# Altium footprint library PCB.PcbLib: 1 footprints
Each footprint in its own frame and in the unit in brackets; x right, y up, seen from the top. Pads: shape width x height; smd on the part's side, far side on the other; paste and mask are expansions set on the pad; w line width, h text height; cw(c..) or ccw(c..) is an arc to the next point about the centre after c.
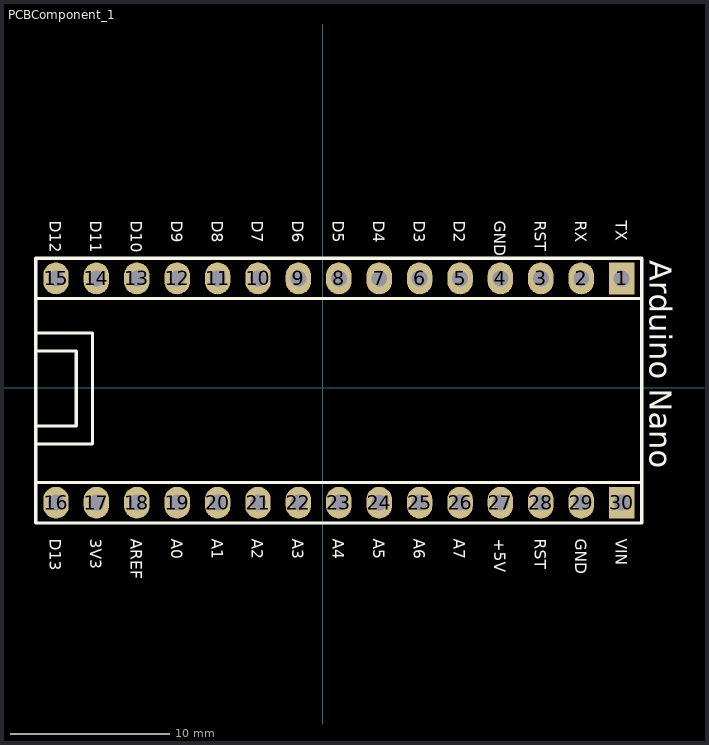
[diagram p0: the footprint, top view; thin cyan lines are the x and y axes]

## PCBComponent_1 [mm]
pads (30):
  rect 1.6x2 hole 1: 1(18.796,6.858) 30(18.796,-7.239)
  oval 1.6x2 hole 1: 2(16.256,6.858) 3(13.716,6.858) 4(11.176,6.858) 5(8.636,6.858) 6(6.096,6.858) 7(3.556,6.858) 8(1.016,6.858) 9(-1.524,6.858) 10(-4.064,6.858) 11(-6.604,6.858) 12(-9.144,6.858) 13(-11.684,6.858) 14(-14.224,6.858) 15(-16.764,6.858) 16(-16.764,-7.239) 17(-14.224,-7.239) 18(-11.684,-7.239) 19(-9.144,-7.239) 20(-6.604,-7.239) 21(-4.064,-7.239) 22(-1.524,-7.239) 23(1.016,-7.239) 24(3.556,-7.239) 25(6.096,-7.239) 26(8.636,-7.239) 27(11.176,-7.239) 28(13.716,-7.239) 29(16.256,-7.239)
Top Overlay:
  lines w0.2: -18.034,-7.493 -18.034,6.858 ; -18.034,-3.429 -18.034,-3.556 -14.478,-3.556 -14.478,3.429 -18.034,3.429 ; -18.034,-2.413 -15.494,-2.413 -15.494,2.286 -18.034,2.286 ; 20.066,-8.128 20.066,8.001 ; -18.034,-8.509 18.161,-8.509 20.066,-8.509 20.066,-5.969 -18.034,-5.969 -18.034,-8.509 ; -18.034,5.588 18.161,5.588 20.066,5.588 20.066,8.128 -18.034,8.128 -18.034,5.588
  text "3V3" at -14.605,-9.5 h0.7
  text "AREF" at -12.065,-9.5 h0.7
  text "A0" at -9.525,-9.5 h0.7
  text "A1" at -6.985,-9.5 h0.7
  text "A2" at -4.445,-9.5 h0.7
  text "A3" at -1.905,-9.5 h0.7
  text "A4" at 0.635,-9.5 h0.7
  text "A5" at 3.175,-9.5 h0.7
  text "A6" at 5.715,-9.5 h0.7
  text "A7" at 8.255,-9.5 h0.7
  text "+5V" at 10.795,-9.5 h0.7
  text "RST" at 13.335,-9.5 h0.7
  text "GND" at 15.875,-9.5 h0.7
  text "D13" at -17.145,-9.5 h0.7
  text "D12" at -17.145,10.5 h0.7
  text "D11" at -14.605,10.5 h0.7
  text "D10" at -12.065,10.5 h0.7
  text "D9" at -9.525,10.5 h0.7
  text "D8" at -6.985,10.5 h0.7
  text "D7" at -4.445,10.5 h0.7
  text "D6" at -1.905,10.5 h0.7
  text "D5" at 0.635,10.5 h0.7
  text "D4" at 3.175,10.5 h0.7
  text "D3" at 5.715,10.5 h0.7
  text "D2" at 8.255,10.5 h0.7
  text "GND" at 10.795,10.5 h0.7
  text "RST" at 13.335,10.5 h0.7
  text "RX" at 15.875,10.5 h0.7
  text "TX" at 18.415,10.5 h0.7
  text "VIN" at 18.415,-9.5 h0.7
  text "Arduino Nano" at 20.574,8.001 h1.4